# EAGLE library part LMV358 (library op-amp)
OP-AMP - Dual Operational Amplifier
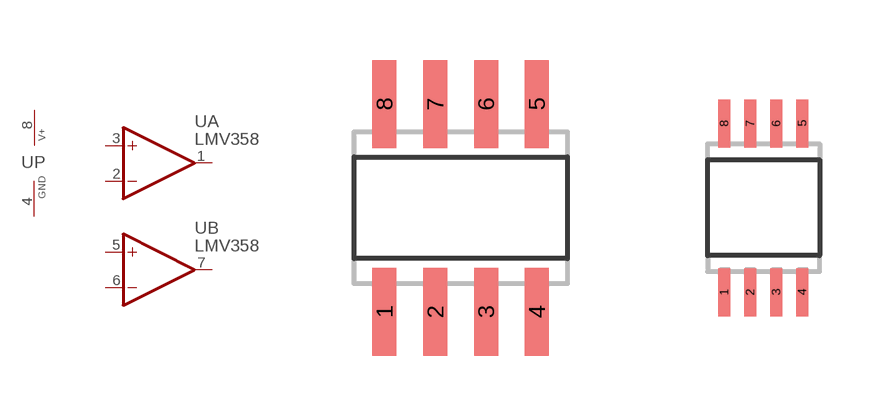
[diagram p60: symbol with the pads of SO08; footprints SO08, MSOP08]

Designator prefix U; gates A=OPAMP_NV B=OPAMP_NV P=PWR+G

## LMV358LIDT (DIGIKEY: 497-13054-1-ND; MFR: STMicroElectronics; MPN: LM358LIDT; P1I: o)  [SO08]
1  A:OUT  out
2  A:-IN  in
3  A:+IN  in
4  P:GND  pwr
5  B:+IN  in
6  B:-IN  in
7  B:OUT  out
8  P:V+  pwr

## LMV358DGK (P1I: o)  [MSOP08]
Pads as for SO08

## LMV358PW (P1I: o)  [TSSOP8]
Pads as for SO08

## LMV358L (DIGIKEY: 497-13055-1-ND; MFR: STMicroelectronics; MPN: LMV358LIST; P1I: o)  [SO8-MINI]
Pads as for SO08

## Footprint SO08 (pad centres in mm)
SMALL OUTLINE INTEGRATED CIRCUIT body 3.9 mm/JEDEC MS-012AA
smd 0.6 x 2.2: 1 -1.905,-2.6; 2 -0.635,-2.6; 3 0.635,-2.6; 4 1.905,-2.6; 5 1.905,2.6; 6 0.635,2.6; 7 -0.635,2.6; 8 -1.905,2.6

## Footprint MSOP08 (pad centres in mm)
Mini Small Outline Package
smd 0.3 x 1.2: 1 -0.976,-2.113; 2 -0.326,-2.113; 3 0.324,-2.113; 4 0.974,-2.113; 5 0.974,2.112; 6 0.324,2.112; 7 -0.326,2.112; 8 -0.976,2.112

## Footprint TSSOP8 (pad centres in mm)
Thin Shrink Small Outline Plastic 8 body 4.2 mm
smd 0.35 x 1.2: 1 -0.975,-2.925; 2 -0.325,-2.925; 3 0.325,-2.925; 4 0.975,-2.925; 5 0.975,2.925; 6 0.325,2.925; 7 -0.325,2.925; 8 -0.975,2.925

## Footprint SO8-MINI (pad centres in mm)
smd 0.4 x 1.05: 1 -0.975,-2.075; 2 -0.325,-2.075; 3 0.325,-2.075; 4 0.975,-2.075; 5 0.975,2.075; 6 0.325,2.075; 7 -0.325,2.075; 8 -0.975,2.075